# Altium footprint library FTE-105-XX-X-DH--Symbol-Altium-44987.PcbLib: 1 footprints
Each footprint in its own frame and in the unit in brackets; x right, y up, seen from the top. Pads: shape width x height; smd on the part's side, far side on the other; paste and mask are expansions set on the pad; w line width, h text height; cw(c..) or ccw(c..) is an arc to the next point about the centre after c.
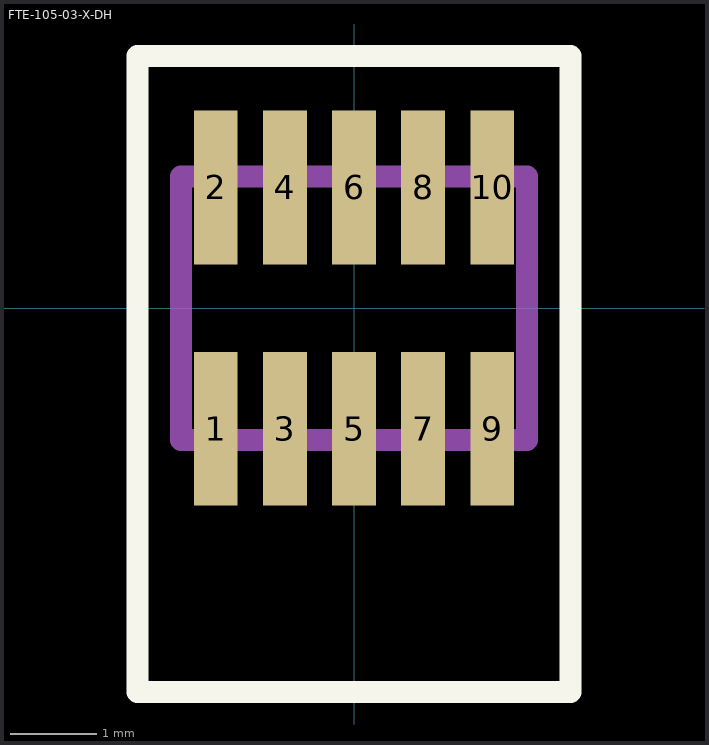
[diagram p0: the footprint, top view; thin cyan lines are the x and y axes]

## FTE-105-03-X-DH [mil]
pads (10):
  rect 20x70 smd mask+2: 1(-63,-55) 2(-63,55) 3(-31.5,-55) 4(-31.5,55) 5(0,-55) 6(0,55) 7(31.5,-55) 8(31.5,55) 9(63,-55) 10(63,55)
Top Overlay:
  lines w10: -98.75,-175 -98.75,115 98.75,115 98.75,-175 -98.75,-175
Mechanical 1:
  lines w10: -78.75,-60 -78.75,60 78.75,60 78.75,-60 -78.75,-60
  text "J1" at -17.57,-18 h30
3D body "FTE-105-03-G-DH.stp": height 119.88, standoff -0.12, extent -78.75,-300 78.75,75